# Altium footprint library Capacitors.PcbLib: 2 footprints
Each footprint in its own frame and in the unit in brackets; x right, y up, seen from the top. Pads: shape width x height; smd on the part's side, far side on the other; paste and mask are expansions set on the pad; w line width, h text height; cw(c..) or ccw(c..) is an arc to the next point about the centre after c.
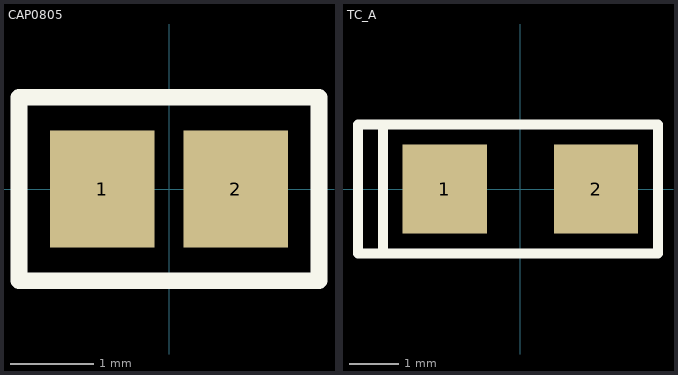
[diagram p0: the footprints below, top view; thin cyan lines are the x and y axes]

## CAP0805 [mm]
height 1.3
pads (2):
  rect 1.25x1.4 smd: 1(-0.8,0) 2(0.8,0)
Top Overlay:
  lines w0.2: -1.8,-1.1 1.8,-1.1 1.8,1.1 -1.8,1.1 -1.8,-1.1

## TC_A [mm]
pads (2):
  rect 1.7x1.8 smd: 1(-1.525,0) 2(1.525,0)
Top Overlay:
  lines w0.2: -2.775,-1.3 -2.775,1.3 ; -3.275,-1.3 2.775,-1.3 2.775,1.3 -3.275,1.3 -3.275,-1.3